# Altium footprint library PcbLib.PcbLib: 21 footprints (part 1 of 2)
Each footprint in its own frame and in the unit in brackets; x right, y up, seen from the top. Pads: shape width x height; smd on the part's side, far side on the other; paste and mask are expansions set on the pad; w line width, h text height; cw(c..) or ccw(c..) is an arc to the next point about the centre after c.
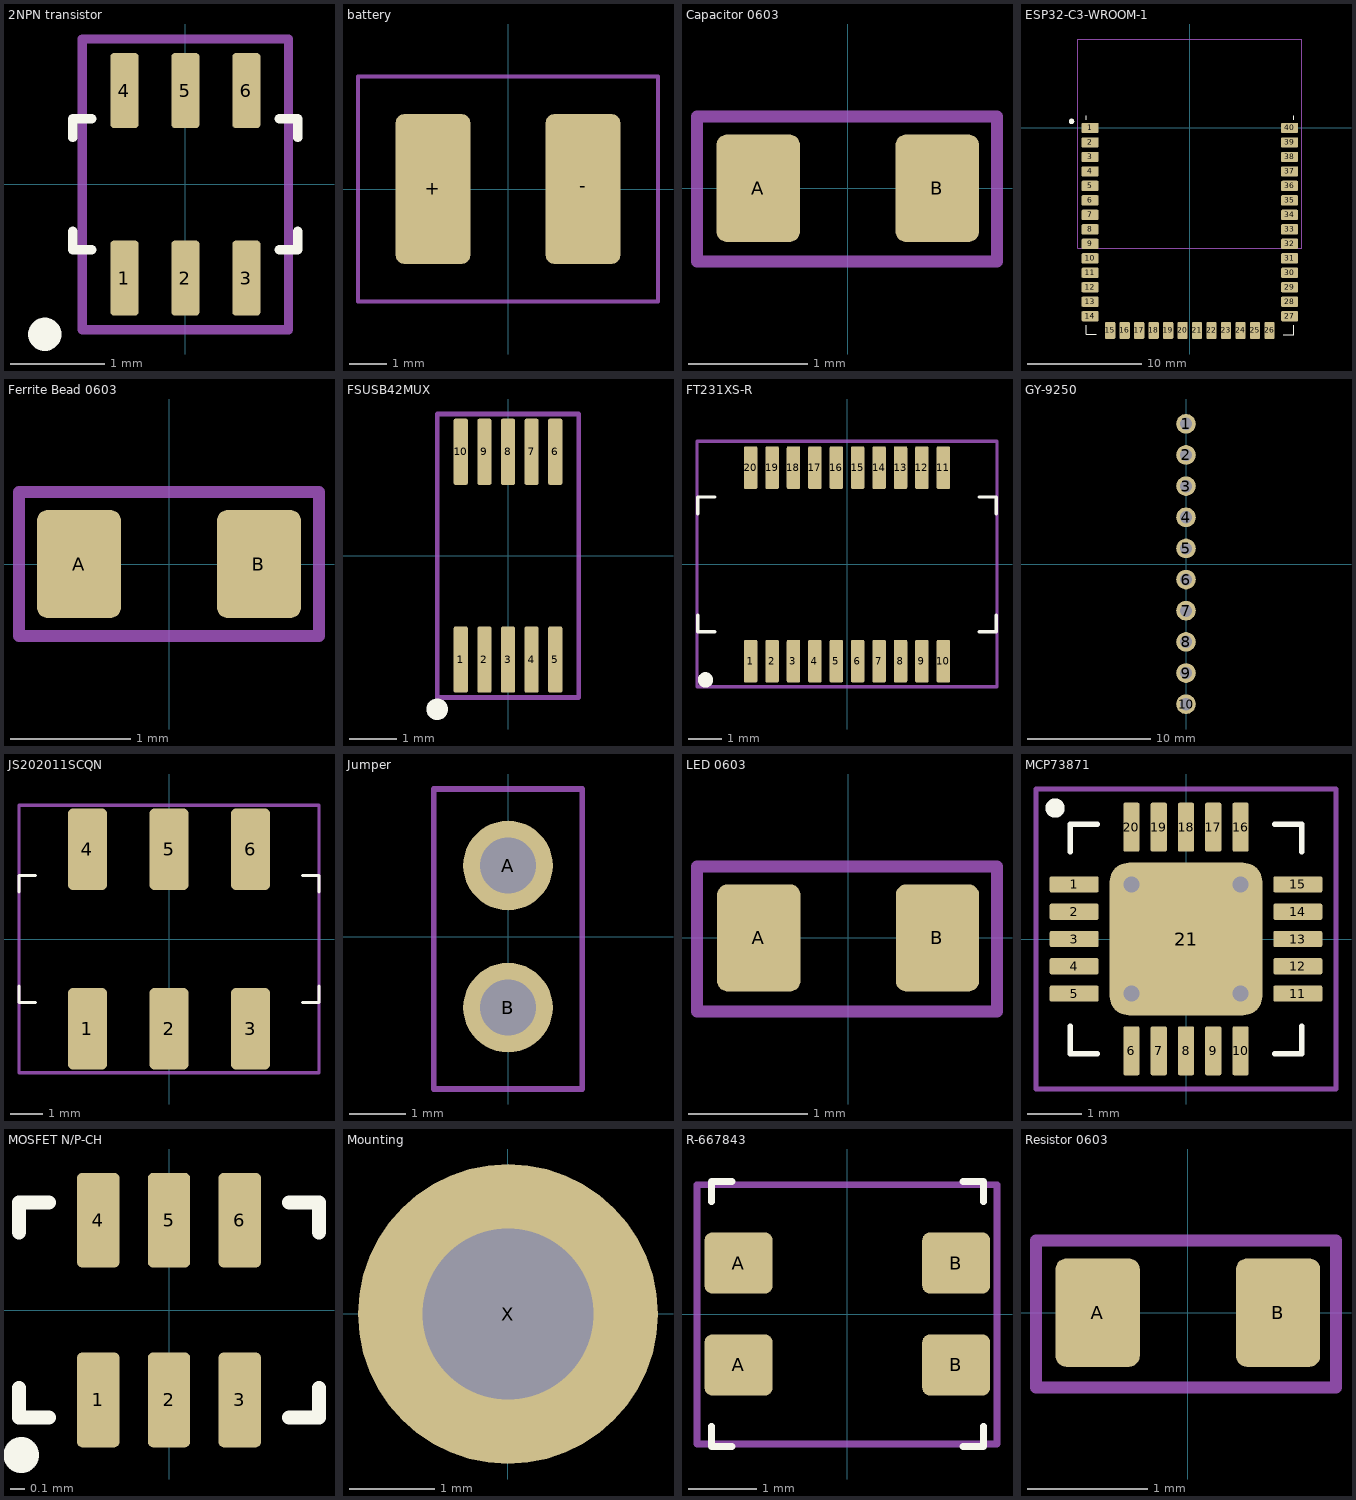
[diagram p0: the footprints below, top view; thin cyan lines are the x and y axes]

## 2NPN transistor [mm]
pads (6):
  rrect25% 0.3x0.8 smd: 1(-0.65,-1) 2(0,-1) 3(0.65,-1) 4(-0.65,1) 5(0,1) 6(0.65,1)
Top Overlay:
  circle w0.254: c-1.5,-1.6 r0.05
  lines w0.1: -1.2,-0.5 -1.2,-0.7 -1,-0.7 ; -1.2,0.5 -1.2,0.7 -1,0.7 ; 1,-0.7 1.2,-0.7 1.2,-0.5 ; 1,0.7 1.2,0.7 1.2,0.5
Mechanical 15:
  lines w0.1: -1.1,-1.55 1.1,-1.55 1.1,1.55 -1.1,1.55 -1.1,-1.55
3D body "MBT3904DW1T1G.STEP": height 1.1, standoff 0, extent -1.012,-1.1 1.012,1.1

## battery [mm]
pads (2):
  rrect25% 2x4 smd: +(-2,0) -(2,0)
Mechanical 15:
  lines w0.1: -4,-3 4,-3 4,3 -4,3 -4,-3

## Capacitor 0603 [mm] "Capacitor0603"
pads (2):
  rrect25% 0.7x0.9 smd: A(-0.75,0) B(0.75,0)
Mechanical 15:
  lines w0.1: -1.263,-0.613 1.25,-0.613 1.25,0.6 -1.263,0.6 -1.263,-0.613
3D body "CL10A106KQ8NNNC.STEP": height 0.9, standoff 0, extent -0.8,-0.4 0.8,0.4

## ESP32-C3-WROOM-1 [mm] "MCU"
pads (40):
  rrect25% 1.5x0.9 smd: 1(-8.75,0) 2(-8.75,-1.27) 3(-8.75,-2.54) 4(-8.75,-3.81) 5(-8.75,-5.08) 6(-8.75,-6.35) 7(-8.75,-7.62) 8(-8.75,-8.89) 9(-8.75,-10.16) 10(-8.75,-11.43) 11(-8.75,-12.7) 12(-8.75,-13.97) 13(-8.75,-15.24) 14(-8.75,-16.51) 27(8.75,-16.51) 28(8.75,-15.24) 29(8.75,-13.97) 30(8.75,-12.7) 31(8.75,-11.43) 32(8.75,-10.16) 33(8.75,-8.89) 34(8.75,-7.62) 35(8.75,-6.35) 36(8.75,-5.08) 37(8.75,-3.81) 38(8.75,-2.54) 39(8.75,-1.27) 40(8.75,0)
  rrect25% 0.9x1.5 smd: 15(-6.985,-17.757) 16(-5.715,-17.757) 17(-4.445,-17.757) 18(-3.175,-17.757) 19(-1.905,-17.757) 20(-0.635,-17.757) 21(0.635,-17.757) 22(1.905,-17.757) 23(3.175,-17.757) 24(4.445,-17.757) 25(5.715,-17.757) 26(6.985,-17.757)
Top Overlay:
  circle w0.254: c-10.375,0.575 r0.112
  lines w0.1: -9.1,-17.3 -9.1,-18.1 -8.2,-18.1 ; -9.1,0.7 -9.1,1.05 ; 8.2,-18.115 9.1,-18.115 9.1,-17.315 ; 9.1,0.7 9.1,1.05
Mechanical 15:
  lines w0.1: -9.832,-10.569 9.813,-10.569 9.813,7.8 -9.832,7.8 -9.832,-10.569
3D body "ESP32S3WROOM1N16R2.STEP": height 3.25, standoff 0, extent -9,-18.01 9,7.49

## Ferrite Bead 0603 [mm] "Ferrite Bead 0603"
pads (2):
  rrect25% 0.7x0.9 smd: A(-0.75,0) B(0.75,0)
Mechanical 15:
  lines w0.1: -1.25,-0.6 1.25,-0.6 1.25,0.6 -1.25,0.6 -1.25,-0.6
3D body "BLM18AG601SN1D.STEP": height 0.95, standoff 0, extent -0.8,-0.4 0.8,0.4

## FSUSB42MUX [mm]
pads (10):
  rrect25% 0.3x1.4 smd: 1(-1,-2.2) 2(-0.5,-2.2) 3(0,-2.2) 4(0.5,-2.2) 5(1,-2.2) 6(1,2.2) 7(0.5,2.2) 8(0,2.2) 9(-0.5,2.2) 10(-1,2.2)
Top Overlay:
  circle w0.254: c-1.5,-3.25 r0.1
Mechanical 15:
  lines w0.1: -1.5,-3 1.5,-3 1.5,3 -1.5,3 -1.5,-3
3D body "FSUSB42MUX--3DModel-STEP-510211.STEP": height 1.1, standoff 0, extent -1.5,-2.45 1.5,2.45

## FT231XS-R [mil] "USB to UART Bridge"
pads (20):
  rrect25% 15.75x50 smd mask+1.97: 1(-112.5,-113) 2(-87.5,-113) 3(-62.5,-113) 4(-37.5,-113) 5(-12.5,-113) 6(12.5,-113) 7(37.5,-113) 8(62.5,-113) 9(87.5,-113) 10(112.5,-113) 11(112.5,113) 12(87.5,113) 13(62.5,113) 14(37.5,113) 15(12.5,113) 16(-12.5,113) 17(-37.5,113) 18(-62.5,113) 19(-87.5,113) 20(-112.5,113)
Top Overlay:
  circle w10: c-165.35,-134.84 r3.94
  lines w3.94: -174.21,-59.06 -174.21,-78.74 -154.53,-78.74 ; -174.21,59.06 -174.21,78.74 -154.53,78.74 ; 154.53,-78.74 174.21,-78.74 174.21,-59.06 ; 154.53,78.74 174.21,78.74 174.21,59.06
Mechanical 15:
  lines w3.94: -175.2,-142.72 175.2,-142.72 175.2,143.7 -175.2,143.7 -175.2,-142.72
3D body "FT231XS-R--3DModel-STEP-418109.STEP": height 69, standoff 0, extent -170.5,-118 170.5,118

## GY-9250 [mm] "IMU"
pads (10):
  round 1.6 hole 1: 1(0,11.43) 2(0,8.89) 3(0,6.35) 4(0,3.81) 5(0,1.27) 6(0,-1.27) 7(0,-3.81) 8(0,-6.35) 9(0,-8.89) 10(0,-11.43)
3D body "MPU-9250.stp": height 6.1, standoff -6.67, extent -1.5,-12.7 13.5,12.7

## JS202011SCQN [mm] "SWITCH SLIDE DPDT 300MA 6V"
pads (6):
  rrect25% 1.2x2.5 smd: 1(-2.5,-2.75) 2(0,-2.75) 3(2.5,-2.75) 4(-2.5,2.75) 5(0,2.75) 6(2.5,2.75)
Top Overlay:
  lines w0.1: -4.6,-1.45 -4.6,-1.95 -4.1,-1.95 ; -4.6,1.45 -4.6,1.95 -4.1,1.95 ; 4.1,-1.95 4.6,-1.95 4.6,-1.45 ; 4.1,1.95 4.6,1.95 4.6,1.45
Mechanical 15:
  lines w0.1: -4.6,-4.1 4.6,-4.1 4.6,4.1 -4.6,4.1 -4.6,-4.1
3D body "JS202011SCQN--3DModel-STEP-269445.STEP": height 5.51, standoff 0, extent -4.496,-3.746 4.496,3.746

## Jumper [mm]
pads (2):
  round 1.6 hole 1: A(0,1.27) B(0,-1.27)
Mechanical 15:
  lines w0.1: -1.325,-2.725 1.325,-2.725 1.325,2.638 -1.325,2.638 -1.325,-2.725
3D body "TSW-102-23-T-S.stp": height 7.88, standoff -3.42, extent -1.27,-2.667 1.27,2.54

## LED 0603 [mm] "Resistor 0603"
pads (2):
  rrect25% 0.7x0.9 smd: A(-0.75,0) B(0.75,0)
Mechanical 15:
  lines w0.1: -1.269,-0.619 1.25,-0.619 1.25,0.6 -1.269,0.6 -1.269,-0.619
3D body "LTST-C193TBKT-5A--3DModel-STEP-56544.STEP": height 0.35, standoff 0, extent -0.8,-0.4 0.8,0.4

## MCP73871 [mm]
pads (21):
  rrect25% 0.9x0.3 smd: 1(-2.05,1) 2(-2.05,0.5) 3(-2.05,0) 4(-2.05,-0.5) 5(-2.05,-1) 11(2.05,-1) 12(2.05,-0.5) 13(2.05,0) 14(2.05,0.5) 15(2.05,1)
  rrect25% 0.3x0.9 smd: 6(-1,-2.05) 7(-0.5,-2.05) 8(0,-2.05) 9(0.5,-2.05) 10(1,-2.05) 16(1,2.05) 17(0.5,2.05) 18(0,2.05) 19(-0.5,2.05) 20(-1,2.05)
  rrect25% 2.8x2.8 smd: 21(0,0)
via 1,-1 diameter 0.5 hole 0.3
via -1,-1 diameter 0.5 hole 0.3
via 1,1 diameter 0.5 hole 0.3
via -1,1 diameter 0.5 hole 0.3
Top Overlay:
  circle w0.254: c-2.4,2.4 r0.05
  lines w0.1: -2.125,-1.6 -2.125,-2.1 -1.625,-2.1 ; -2.125,1.6 -2.125,2.1 -1.625,2.1 ; 1.625,-2.1 2.125,-2.1 2.125,-1.6 ; 1.625,2.1 2.125,2.1 2.125,1.6
Mechanical 15:
  lines w0.1: -2.75,-2.75 2.75,-2.75 2.75,2.75 -2.75,2.75 -2.75,-2.75
3D body "MCP73871-2CCI_ML--3DModel-STEP-455599.STEP": height 1, standoff 0, extent -2,-2 2,2

## MOSFET N/P-CH [mm] "MOSFET N/P-CH"
pads (6):
  rrect25% 0.3x0.67 smd: 1(-0.5,-0.635) 2(0,-0.635) 3(0.5,-0.635) 4(-0.5,0.635) 5(0,0.635) 6(0.5,0.635)
Top Overlay:
  circle w0.254: c-1.045,-1.025 r0.001
  lines w0.1: -1.06,-0.55 -1.06,-0.76 -0.85,-0.76 ; -1.06,0.55 -1.06,0.76 -0.85,0.76 ; 0.85,-0.76 1.06,-0.76 1.06,-0.55 ; 0.85,0.76 1.06,0.76 1.06,0.55
3D body "DMC2400UV-7.STEP": height 0.6, standoff 0, extent -0.8,-0.8 0.8,0.8

## Mounting [mm]
pads (1):
  round 3.5 hole 2: X(0,0)

## R-667843 [mm] "SWITCH TACTILE SPST-NO 0.05A 12V"
pads (4):
  rrect25% 1x0.9 smd: A(-1.6,-0.75) A(-1.6,0.75) B(1.6,-0.75) B(1.6,0.75)
Top Overlay:
  lines w0.1: -2,-1.65 -2,-1.95 -1.7,-1.95 ; -2,1.65 -2,1.95 -1.7,1.95 ; 1.7,-1.95 2,-1.95 2,-1.65 ; 1.7,1.95 2,1.95 2,1.65
Mechanical 15:
  lines w0.1: -2.213,-1.913 2.2,-1.913 2.2,1.9 -2.213,1.9 -2.213,-1.913
3D body "SOV-168HST.step": height 1.5, standoff -0.4, extent -1.95,-1.9 1.95,1.9

## Resistor 0603 [mm] "Resistor 0603"
pads (2):
  rrect25% 0.7x0.9 smd: A(-0.75,0) B(0.75,0)
Mechanical 15:
  lines w0.1: -1.263,-0.622 1.231,-0.622 1.231,0.6 -1.263,0.6 -1.263,-0.622
3D body "CRGCQ0603F1K0.STEP": height 0.55, standoff 0, extent -0.8,-0.4 0.8,0.4